# EAGLE library part RDDW40F-12 (library RDDW40F-12)
Isolated DC/DC Converters 40W 9-36Vin +/-12V 2x1 Iso +/-1.666A Source: Datasheet <https://www.meanwellusa.com/upload/pdf/RDDW40/RSDW40,RDDW40-spec.pdf>
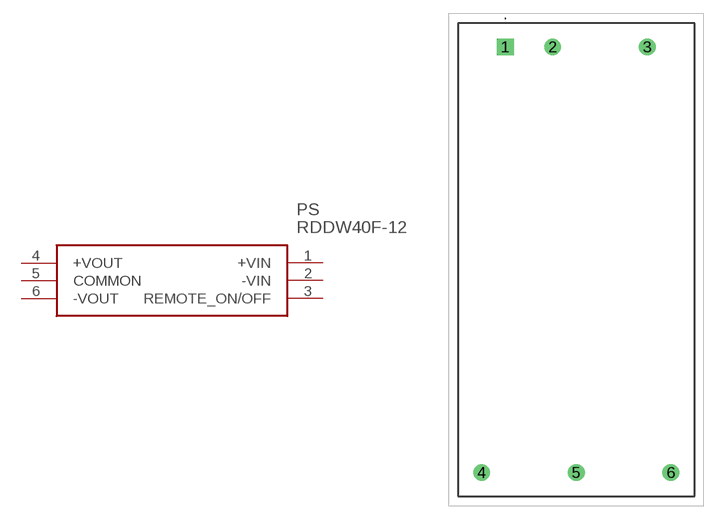
[diagram p0: symbol with the pads of RDDW40F12; footprint RDDW40F12]

Designator prefix PS

## RDDW40F-12 (Description: Isolated DC/DC Converters 40W 9-36Vin +/-12V 2x1 Iso +/-1.666A; Height: 10.85mm; Manufacturer_Name: Mean Well; Manufacturer_Part_Number: RDDW40F-12; Mouser_Part_Number: 709-RDDW40F-12; Mouser_Price-Stock: https://www.mouser.co.uk/ProductDetail/MEAN-WELL/RDDW40F-12?qs=7MVldsJ5Uaz1bDG4FTitMg%3D%3D)  [RDDW40F12]
1  +VIN
2  -VIN
3  REMOTE_ON/OFF
4  +VOUT
5  COMMON
6  -VOUT

## Footprint RDDW40F12 (pad centres in mm)
RDDW40F-12-1
drill 1.2 pad 1.8 square: 1 0,0
drill 1.2 pad 1.8: 2 5.08,0; 3 15.24,0; 4 -2.54,-45.72; 5 7.62,-45.72; 6 17.78,-45.72